# Altium schematic symbol library 78171-0004.SchLib: 1 symbol
Pins are listed as number, name and electrical type; pins without a type are passive.

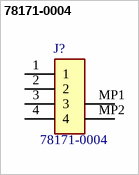
[diagram p0: symbol 78171-0004]

## 78171-0004
designator J?
Molex PICO-EZMATE 78171, 1.2mm Pitch, 4 Way, 1 Row, Straight PCB Header, Surface Mount; Geometry.Height: 1.6mm; Mouser Part Number: 538-78171-0004; Mouser Price/Stock: https://www.mouser.co.uk/ProductDetail/Molex/78171-0004?qs=rg3U%2F5nEhHfTM3gyKulQEQ%3D%3D; Manufacturer_Name: Molex; Manufacturer_Part_Number: 78171-0004; Datasheet Link: https://www.molex.com/pdm_docs/sd/781710004_sd.pdf
footprint 781710004
pins: 1, 2, 3, 4, MP1, MP2